# EAGLE library part SBH41-NBPB-D11-SP (library con-sullins)
HEADER - Vertical, Shrouded
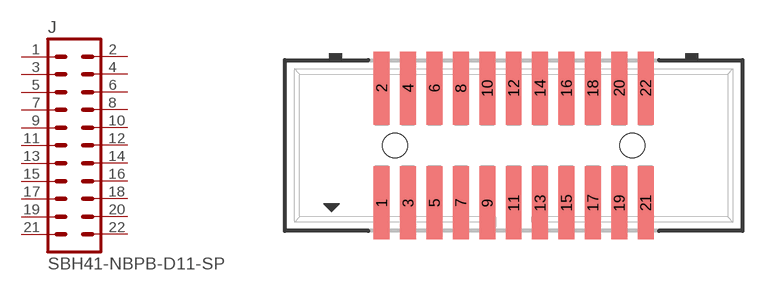
[diagram p48: symbol with the pads of SBH41-NBPB-D11-SP; footprint SBH41-NBPB-D11-SP]

Designator prefix J

## SBH41-NBPB-D11-SP  [SBH41-NBPB-D11-SP]
1  1  pas
2  2  pas
3  3  pas
4  4  pas
5  5  pas
6  6  pas
7  7  pas
8  8  pas
9  9  pas
10  10  pas
11  11  pas
12  12  pas
13  13  pas
14  14  pas
15  15  pas
16  16  pas
17  17  pas
18  18  pas
19  19  pas
20  20  pas
21  21  pas
22  22  pas

## Footprint SBH41-NBPB-D11-SP (pad centres in mm)
CONNECTOR HEADER 0.05" pitch
smd 0.762 x 3.505: 1 -6.35,-2.756; 2 -6.35,2.756; 3 -5.08,-2.756; 4 -5.08,2.756; 5 -3.81,-2.756; 6 -3.81,2.756; 7 -2.54,-2.756; 8 -2.54,2.756; 9 -1.27,-2.756; 10 -1.27,2.756; 11 0,-2.756; 12 0,2.756; 13 1.27,-2.756; 14 1.27,2.756; 15 2.54,-2.756; 16 2.54,2.756; 17 3.81,-2.756; 18 3.81,2.756; 19 5.08,-2.756; 20 5.08,2.756; 21 6.35,-2.756; 22 6.35,2.756
hole 1.194 at -5.715,0
hole 1.194 at 5.715,0